# Altium footprint library TI PVQFN-16 4X4MM RSA.PCBLIB: 1 footprints
Each footprint in its own frame and in the unit in brackets; x right, y up, seen from the top. Pads: shape width x height; smd on the part's side, far side on the other; paste and mask are expansions set on the pad; w line width, h text height; cw(c..) or ccw(c..) is an arc to the next point about the centre after c.
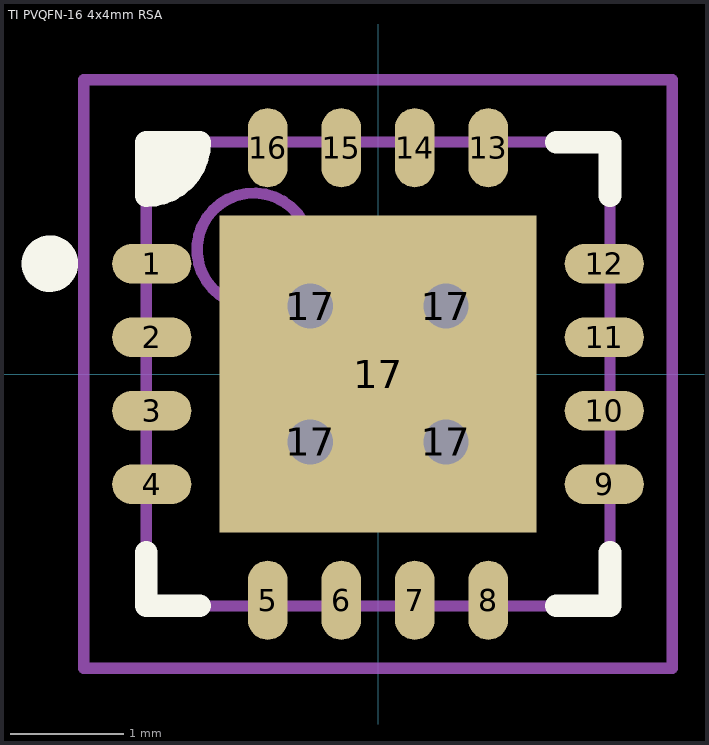
[diagram p0: the footprint, top view; thin cyan lines are the x and y axes]

## TI PVQFN-16 4x4mm RSA [mm] "QFN, 16-Leads, Body 4.1x4.1mm (max), Pitch 0.65mm, IPC Medium Density"
height 1
pads (21):
  oval 0.7x0.35 smd: 1(-2,0.975) 2(-2,0.325) 3(-2,-0.325) 4(-2,-0.975) 9(2,-0.975) 10(2,-0.325) 11(2,0.325) 12(2,0.975)
  oval 0.35x0.7 smd: 5(-0.975,-2) 6(-0.325,-2) 7(0.325,-2) 8(0.975,-2) 13(0.975,2) 14(0.325,2) 15(-0.325,2) 16(-0.975,2)
  round 0.8 hole 0.4 unplated: 17(-0.6,-0.6) 17(-0.6,0.6) 17(0.6,-0.6) 17(0.6,0.6)
  rect 2.8x2.8 smd: 17(0,0)
Top Overlay:
  circle w0.25: c-2.9,0.975 r0.125
  region: -2.05,2.05 -1.575,2.05 -1.575,1.854 -1.854,1.575 -2.05,1.575
  lines w0.2: -2.05,-1.575 -2.05,-2.05 -1.575,-2.05 ; 1.575,-2.05 2.05,-2.05 2.05,-1.575 ; 1.575,2.05 2.05,2.05 2.05,1.575 ; -2.05,1.575 ccw(c-2.05,2.05) -1.575,2.05 -2.05,2.05 -2.05,1.575
Mechanical 13:
  circle w0.1: c-1.1,1.1 r0.5
  lines w0.1: -2.05,-2.05 2.05,-2.05 2.05,2.05 -2.05,2.05 -2.05,-2.05
Mechanical 15:
  lines w0.1: -0.5,0 0.5,0 ; 0,-0.5 0,0.5 ; -2.6,-2.6 2.6,-2.6 2.6,2.6 -2.6,2.6 -2.6,-2.6
3D body: height 1, standoff 0.08, extent -2.05,-2.05 2.05,2.05